# Altium footprint library EBWA04A.PcbLib: 1 footprints
Each footprint in its own frame and in the unit in brackets; x right, y up, seen from the top. Pads: shape width x height; smd on the part's side, far side on the other; paste and mask are expansions set on the pad; w line width, h text height; cw(c..) or ccw(c..) is an arc to the next point about the centre after c.
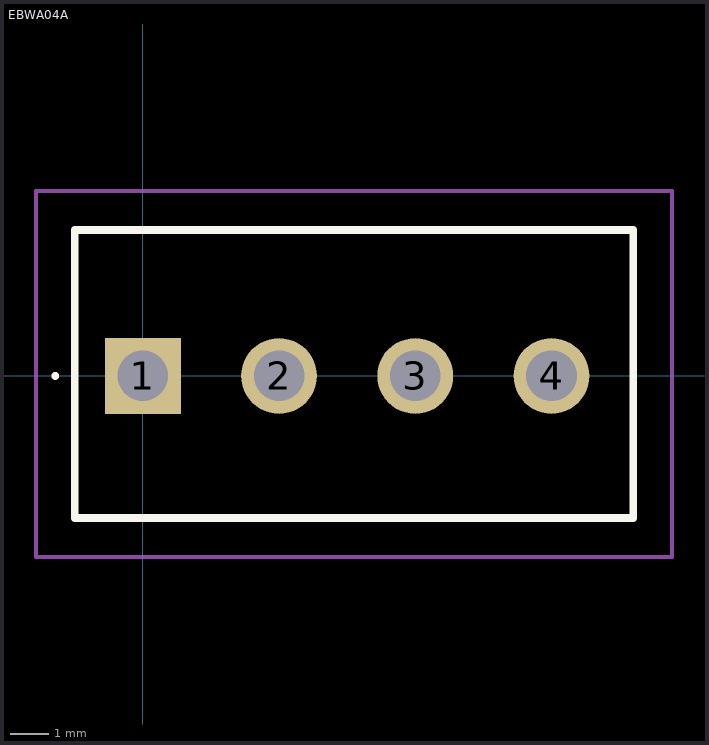
[diagram p0: the footprint, top view; thin cyan lines are the x and y axes]

## EBWA04A [mm]
pads (4):
  rect 1.95x1.95 hole 1.3: 1(0,0)
  round 1.95 hole 1.3: 2(3.5,0) 3(7,0) 4(10.5,0)
Top Overlay:
  lines w0.1: -2.3,0 cw(c-2.25,0) -2.2,0 ; -2.3,0 -2.3,0 ; -2.3,0 ccw(c-2.25,0) -2.2,0 ; -2.2,0 -2.2,0
  lines w0.2: -1.75,-3.65 12.6,-3.65 12.6,3.75 -1.75,3.75 -1.75,-3.65
Mechanical 15:
  lines w0.1: -1.75,-3.65 12.6,-3.65 12.6,3.75 -1.75,3.75 -1.75,-3.65
Mechanical 20:
  lines w0.1: -2.75,-4.65 13.6,-4.65 13.6,4.75 -2.75,4.75 -2.75,-4.65